# Altium footprint library Fasteners & Fixings.PcbLib: 118 footprints (part 5 of 8)
Each footprint in its own frame and in the unit in brackets; x right, y up, seen from the top. Pads: shape width x height; smd on the part's side, far side on the other; paste and mask are expansions set on the pad; w line width, h text height; cw(c..) or ccw(c..) is an arc to the next point about the centre after c.
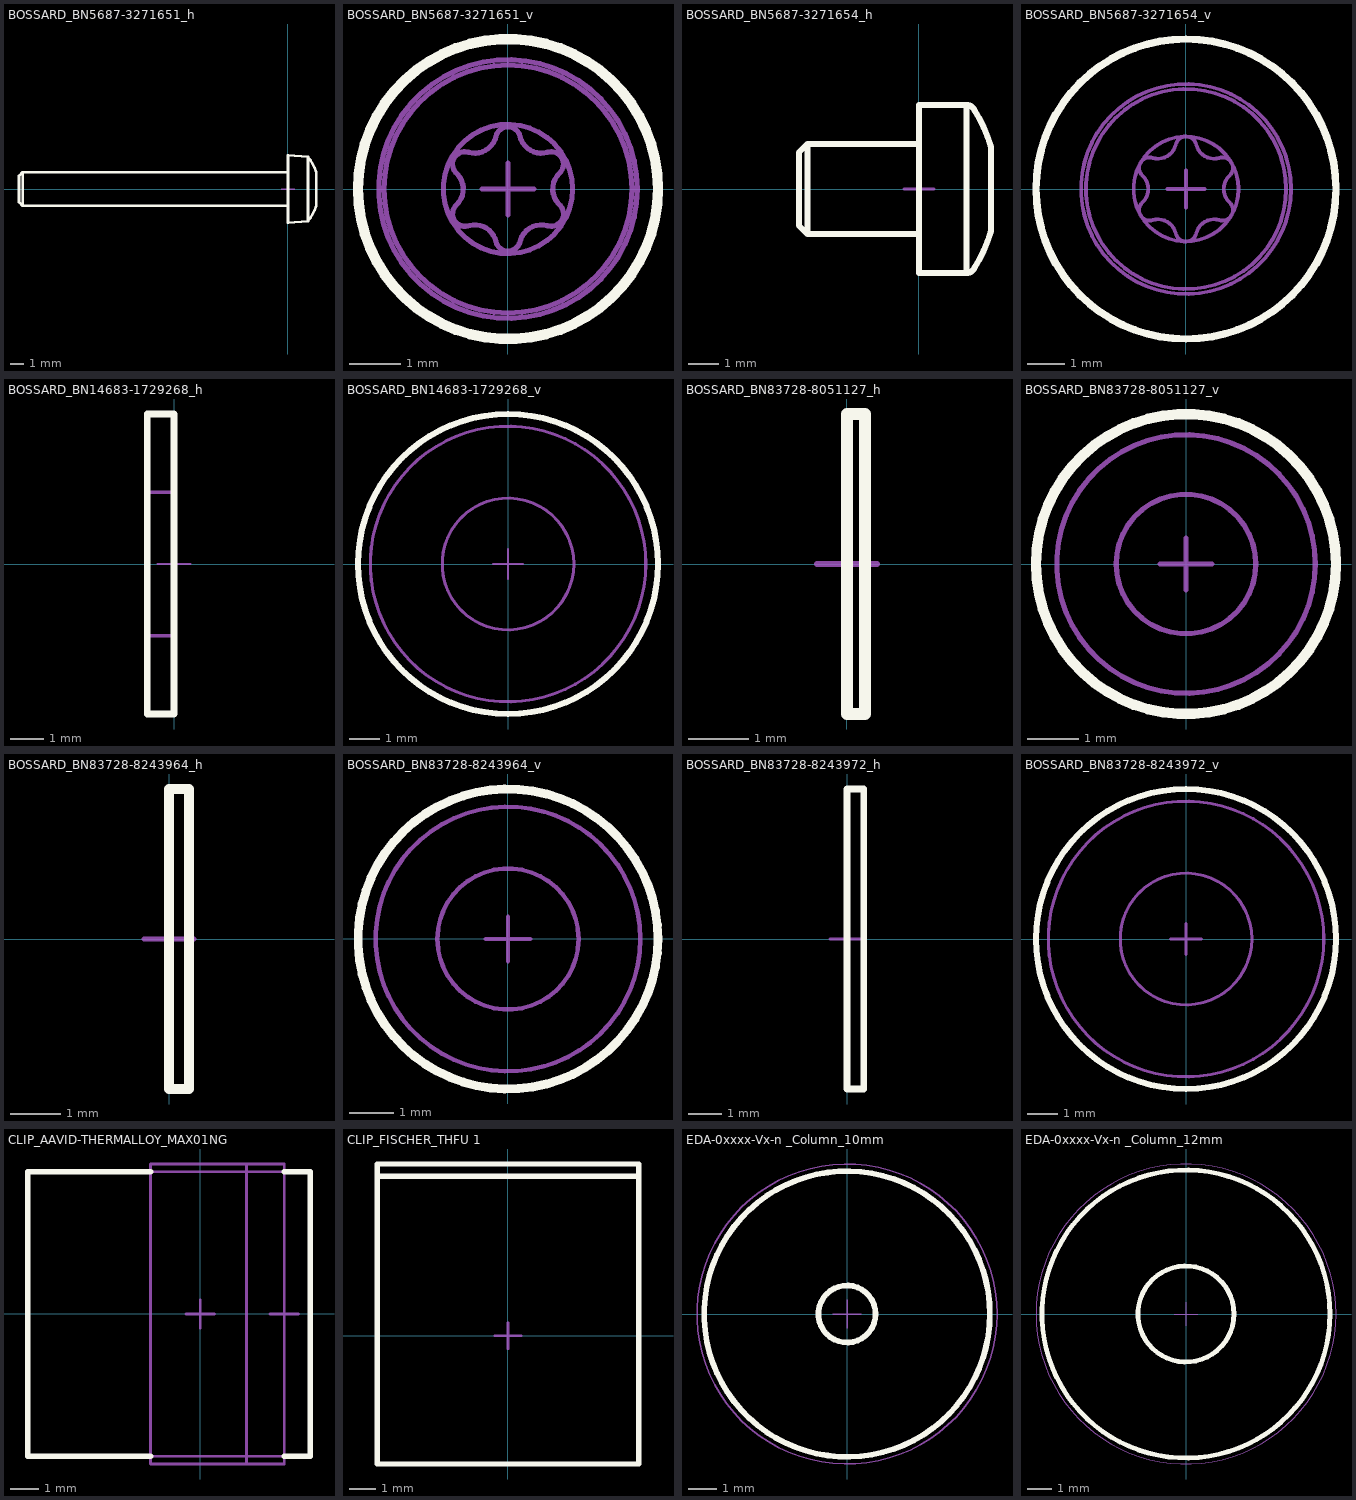
[diagram p4: the footprints below, top view; thin cyan lines are the x and y axes]

## BOSSARD_BN5687-3271651_h [mm] "M2.5 L=20mm Hexalobular Socket Pan Head Screw, Fully Threaded - Stainless Steel A2"
height 5
Top Overlay:
  lines w0.2: 0,-1.25 -19.724,-1.25 ; 0,1.25 -19.724,1.25 ; -19.724,-1.25 -20,-0.974 -20,0.974 -19.724,1.25 ; -19.724,-1.25 -19.724,1.25 ; 1.484,-2.396 ccw(c-1.598,0) 2.1,-1.25 2.1,1.25 ccw(c-1.598,0) 1.484,2.396 ; 1.484,-2.396 0,-2.5 0,2.5 1.484,2.396 ; 1.484,-2.396 1.484,2.396
Mechanical 8:
  lines w0.1: -0.5,0 0,0 ; 0,-0.5 0,0 ; 0,0.5 0,0 ; 0.5,0 0,0
Mechanical 14:
  lines w0.1: 0,-1.25 -19.724,-1.25 ; 0,1.25 -19.724,1.25 ; -19.724,-1.25 -20,-0.974 -20,0.974 -19.724,1.25 ; -19.724,-1.25 -19.724,1.25 ; 1.484,-2.396 ccw(c-1.598,0) 2.1,-1.25 2.1,1.25 ccw(c-1.598,0) 1.484,2.396 ; 1.484,-2.396 0,-2.5 0,2.5 1.484,2.396 ; 1.484,-2.396 1.484,2.396
3D body "BOSSARD_BN5687-3271651_h.stp": height 2.5, standoff -2.5, extent -20,-2.5 2.1,2.5

## BOSSARD_BN5687-3271651_v [mm] "M2.5 L=20mm Hexalobular Socket Pan Head Screw, Fully Threaded - Stainless Steel A2"
height 22.1
Top Overlay:
  circle w0.2: c0,0 r2.9
Mechanical 8:
  lines w0.1: -0.5,0 0,0 ; 0,-0.5 0,0 ; 0,0.5 0,0 ; 0.5,0 0,0
Mechanical 14:
  circle w0.1: c0,0 r2.396
  circle w0.1: c0,0 r1.25
  circle w0.1: c0,0 r2.5
  lines w0.1: 0.232,-1.021 cw(c0,-0.96) -0.233,-1.015 ccw(c-0.642,-1.112) -0.739,-0.704 cw(c-0.83,-0.48) -0.996,-0.305 ccw(c-1.284,0) -0.979,0.288 cw(c-0.831,0.479) -0.763,0.71 ccw(c-0.642,1.112) -0.233,1.015 cw(c0,0.96) 0.234,1.015 ccw(c0.642,1.112) 0.763,0.71 cw(c0.831,0.48) 0.996,0.305 ccw(c1.284,0) 0.979,-0.288 cw(c0.831,-0.479) 0.763,-0.71 ccw(c0.642,-1.112) 0.24,-0.992
3D body "BOSSARD_BN5687-3271651_v.stp": height 2.1, standoff -20, extent -2.5,-2.5 2.5,2.5

## BOSSARD_BN5687-3271654_h [mm] "M3 L=4mm Hexalobular Socket Pan Head Screw, Fully Threaded - Stainless Steel A2"
height 5.6
Top Overlay:
  lines w0.2: 0,-1.5 -3.724,-1.5 ; 0,1.5 -3.724,1.5 ; 1.828,2.669 ccw(c1.591,2.521) 1.591,2.8 ; 1.827,2.67 cw(c-2.4,0) 2.4,1.4 2.4,-1.4 cw(c-2.4,0) 1.828,-2.67 cw(c1.591,-2.52) 1.591,-2.8 ; -3.724,-1.5 -3.724,1.5 ; -3.724,-1.5 -4,-1.224 -4,1.224 -3.724,1.5 ; 1.591,-2.8 0,-2.8 0,2.8 1.591,2.8 ; 1.591,-2.8 1.591,2.8
Mechanical 8:
  lines w0.1: -0.5,0 0,0 ; 0,-0.5 0,0 ; 0,0.5 0,0 ; 0.5,0 0,0
Mechanical 14:
  lines w0.1: 0,-1.5 -3.724,-1.5 ; 0,1.5 -3.724,1.5 ; 1.828,2.669 ccw(c1.591,2.521) 1.591,2.8 ; 1.827,2.67 cw(c-2.4,0) 2.4,1.4 2.4,-1.4 cw(c-2.4,0) 1.828,-2.67 cw(c1.591,-2.52) 1.591,-2.8 ; -3.724,-1.5 -3.724,1.5 ; -3.724,-1.5 -4,-1.224 -4,1.224 -3.724,1.5 ; 1.591,-2.8 0,-2.8 0,2.8 1.591,2.8 ; 1.591,-2.8 1.591,2.8
3D body "BOSSARD_BN5687-3271654_h.stp": height 2.8, standoff -2.8, extent -4,-2.8 2.4,2.8

## BOSSARD_BN5687-3271654_v [mm] "M3 L=4mm Hexalobular Socket Pan Head Screw, Fully Threaded - Stainless Steel A2"
height 6.4
Top Overlay:
  circle w0.2: c0,0 r4
Mechanical 8:
  lines w0.1: -0.5,0 0,0 ; 0,-0.5 0,0 ; 0,0.5 0,0 ; 0.5,0 0,0
Mechanical 14:
  circle w0.1: c0,0 r2.669
  circle w0.1: c0,0 r1.4
  circle w0.1: c0,0 r2.8
  lines w0.1: -1.162,-0.356 ccw(c-1.498,0) -1.162,0.356 cw(c-0.97,0.56) -0.89,0.828 ccw(c-0.749,1.298) -0.272,1.185 cw(c0,1.12) 0.272,1.185 ccw(c0.749,1.298) 0.89,0.828 cw(c0.97,0.56) 1.162,0.356 ccw(c1.498,0) 1.162,-0.356 cw(c0.97,-0.56) 0.89,-0.828 ccw(c0.749,-1.298) 0.272,-1.185 cw(c0,-1.12) -0.272,-1.185 ccw(c-0.749,-1.298) -0.89,-0.828 cw(c-0.97,-0.56) -1.162,-0.356
3D body "BOSSARD_BN5687-3271654_v.stp": height 2.4, standoff -4, extent -2.8,-2.8 2.8,2.8

## BOSSARD_BN14683-1729268_h [mm] "Flat Washer Without Chamfer for M4 Screw, Steel 140 HV Black Oxidized"
height 9
Top Overlay:
  lines w0.2: -0.8,-4.5 0,-4.5 0,4.5 -0.8,4.5 -0.8,-4.5
Mechanical 8:
  lines w0.05: -0.5,0 0,0 ; 0,-0.5 0,0 ; 0,0.5 0,0 ; 0.5,0 0,0
Mechanical 14:
  lines w0.1: -0.8,-2.15 0,-2.15 ; -0.8,2.15 0,2.15 ; -0.8,-4.5 0,-4.5 0,4.5 -0.8,4.5 -0.8,-4.5
3D body "BOSSARD_BN14683-1729268_h.stp": height 4.5, standoff -4.5, extent -0.8,-4.5 0,4.5

## BOSSARD_BN14683-1729268_v [mm] "Flat Washer Without Chamfer for M4 Screw, Steel 140 HV Black Oxidized"
height 0.8
Top Overlay:
  circle w0.2: c0,0 r4.9
Mechanical 8:
  lines w0.05: -0.5,0 0,0 ; 0,-0.5 0,0 ; 0,0.5 0,0 ; 0.5,0 0,0
Mechanical 14:
  circle w0.1: c0,0 r4.5
  circle w0.1: c0,0 r2.15
3D body "BOSSARD_BN14683-1729268_v.stp": height 0.8, standoff 0, extent -4.5,-4.5 4.5,4.5

## BOSSARD_BN83728-8051127_h [mm] "Waved Spring Washer for M2.5 Screw - Steel 440-520 HV - Zinc Plated Blue"
height 5
Top Overlay:
  lines w0.2: 0,-2.5 0.3,-2.5 0.3,2.5 0,2.5 0,-2.5
Mechanical 8:
  lines w0.1: -0.5,0 0,0 ; 0,-0.5 0,0 ; 0,0.5 0,0 ; 0.5,0 0,0
Mechanical 14:
  lines w0.1: 0,-2.5 0.3,-2.5 0.3,2.5 0,2.5 0,-2.5
3D body "BOSSARD_BN83728-8051127_h.stp": height 2.5, standoff -2.5, extent 0,-2.5 0.3,2.5

## BOSSARD_BN83728-8051127_v [mm] "Waved Spring Washer for M2.5 Screw - Steel 440-520 HV - Zinc Plated Blue"
height 0.3
Top Overlay:
  circle w0.2: c0,0 r2.9
Mechanical 8:
  lines w0.1: -0.5,0 0,0 ; 0,-0.5 0,0 ; 0,0.5 0,0 ; 0.5,0 0,0
Mechanical 14:
  circle w0.1: c0,0 r1.35
  circle w0.1: c0,0 r2.5
3D body "BOSSARD_BN83728-8051127_v.stp": height 0.3, standoff 0, extent -2.5,-2.499 2.5,2.499

## BOSSARD_BN83728-8243964_h [mm] "Waved Spring Washer for M3 Screw - Steel 440-520 HV - Zinc Plated Blue"
height 6
Top Overlay:
  lines w0.2: 0,-3 0.4,-3 0.4,3 0,3 0,-3
Mechanical 8:
  lines w0.1: -0.5,0 0,0 ; 0,-0.5 0,0 ; 0,0.5 0,0 ; 0.5,0 0,0
Mechanical 14:
  lines w0.1: 0,-3 0.4,-3 0.4,3 0,3 0,-3
3D body "BOSSARD_BN83728-8243964_h.stp": height 3, standoff -3, extent 0,-2.999 0.4,2.999

## BOSSARD_BN83728-8243964_v [mm] "Waved Spring Washer for M3 Screw - Steel 440-520 HV - Zinc Plated Blue"
height 0.4
Top Overlay:
  circle w0.2: c0,0 r3.4
Mechanical 8:
  lines w0.1: -0.5,0 0,0 ; 0,-0.5 0,0 ; 0,0.5 0,0 ; 0.5,0 0,0
Mechanical 14:
  circle w0.1: c0,0 r1.6
  circle w0.1: c0,0 r3
3D body "BOSSARD_BN83728-8243964_v.stp": height 0.4, standoff 0, extent -3,-2.999 3,2.999

## BOSSARD_BN83728-8243972_h [mm] "Waved Spring Washer for M4 Screw - Steel 440-520 HV - Zinc Plated Blue"
height 9
Top Overlay:
  lines w0.2: 0,-4.5 0,4.5 0.5,4.5 0.5,-4.5 0,-4.5
Mechanical 8:
  lines w0.1: -0.5,0 0,0 ; 0,-0.5 0,0 ; 0,0.5 0,0 ; 0.5,0 0,0
Mechanical 14:
  lines w0.1: 0,-4.5 0,4.5 0.5,4.5 0.5,-4.5 0,-4.5
3D body "BOSSARD_BN83728-8243972_h.stp": height 4.5, standoff -4.5, extent 0,-4.5 0.5,4.5

## BOSSARD_BN83728-8243972_v [mm] "Waved Spring Washer for M4 Screw - Steel 440-520 HV - Zinc Plated Blue"
height 0.5
Top Overlay:
  circle w0.2: c0,0 r4.9
Mechanical 8:
  lines w0.1: -0.5,0 0,0 ; 0,-0.5 0,0 ; 0,0.5 0,0 ; 0.5,0 0,0
Mechanical 14:
  circle w0.1: c0,0 r4.5
  circle w0.1: c0,0 r2.15
3D body "BOSSARD_BN83728-8243972_v.stp": height 0.5, standoff 0, extent -4.5,-4.499 4.5,4.499

## CLIP_AAVID-THERMALLOY_MAX01NG [mm] "Retaining Clip for TO-220 Case (for Use with 78020 Heat-Sink)"
height 22
Top Overlay:
  lines w0.2: -1.75,-5 -6.057,-5 -6.057,5 -1.75,5 ; 2.95,-5 3.86,-5 3.86,5 2.95,5
Mechanical 8:
  lines w0.1: -0.5,0 0,0 ; 0,-0.5 0,0 ; 0,0.5 0,0 ; 0.5,0 0,0 ; 1.63,-5.27 1.63,5.27 ; 2.45,0 2.95,0 ; 3.45,0 2.95,0 ; 2.95,0 2.95,-5.27 -1.75,-5.27 -1.75,5.27 2.95,5.27 2.95,0
Mechanical 14:
  lines w0.1: -6.057,-5 -6.057,5 3.86,5 3.86,-5 -6.057,-5
3D body "CLIP_AAVID-THERMALLOY_780203B08661G.stp": height 29.86, standoff 7.65, extent -6.065,-5 3.86,5

## CLIP_FISCHER_THFU 1 [mm] "Retaining Clip for TO-220 Case (for Use with FISCHER_SK 481 Heat-Sink)"
height 17.2
Top Overlay:
  lines w0.2: -5,6.095 5,6.095 ; -5,-4.907 5,-4.907 5,6.564 -5,6.564 -5,-4.907
Mechanical 8:
  lines w0.1: -0.5,0 0,0 ; 0,-0.5 0,0 ; 0,0.5 0,0 ; 0.5,0 0,0
Mechanical 14:
  lines w0.1: -5,6.095 5,6.095 ; -5,-4.907 5,-4.907 5,6.564 -5,6.564 -5,-4.907
3D body "CLIP_FISCHER_THFU 1.stp": height 28.1, standoff 10.5, extent -5,-4.907 5,6.564

## EDA-0xxxx-Vx-n _Column_10mm [mm] "10mm Diameter 30mm Heigh, Column InPCB Part For TE/EPC Beds Of Nails"
height 30
Top Overlay:
  circle w0.2: c0,0 r1
  circle w0.2: c0,0 r5
Mechanical 8:
  lines w0.05: -0.5,0 0,0 ; 0,-0.5 0,0 ; 0,0.5 0,0 ; 0.5,0 0,0
Mechanical 14:
  circle w0.1: c0,0 r1
  circle w0.1: c0,0 r5
Mechanical 15:
  circle w0.05: c0,0 r5.25
3D body "EDA-0xxxx-Vx-n _Column_10mm.stp": height 30, standoff 0, extent -5,-5 5,5

## EDA-0xxxx-Vx-n _Column_12mm [mm] "12mm Diameter 30mm Heigh, Column OutPCB Part For TE/EPC Beds Of Nails"
height 30
Top Overlay:
  circle w0.2: c0,0 r2
  circle w0.2: c0,0 r6
Mechanical 8:
  lines w0.05: -0.5,0 0,0 ; 0,-0.5 0,0 ; 0,0.5 0,0 ; 0.5,0 0,0
Mechanical 14:
  circle w0.1: c0,0 r2
  circle w0.1: c0,0 r6
Mechanical 15:
  circle w0.05: c0,0 r6.25
3D body "EDA-0xxxx-Vx-n _Column_12mm.stp": height 30, standoff 0, extent -6,-6 6,6